# Altium schematic symbol library 02.MCU_KL25.SCHLIB: 9 symbols
Pins are listed as number, name and electrical type; pins without a type are passive.

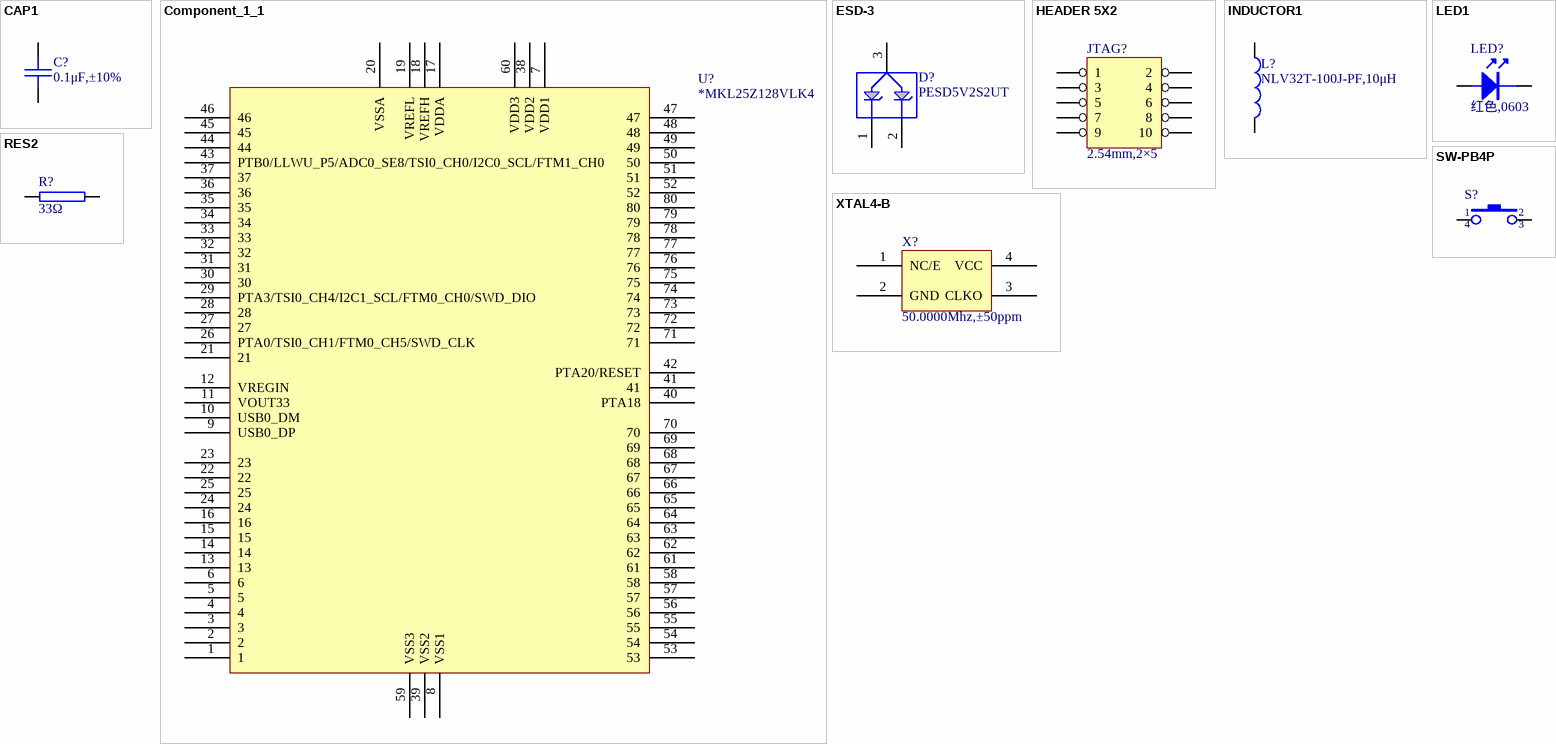
[diagram p0: symbols CAP1 to XTAL4-B]

## CAP1
designator C?, comment 0.1μF,±10%
0.1μF,±10%,100V,X7R,C2012X7R2A104K*****,0805,TDK,RoHS; 物料代码: 1.02.02.0079; 名称: 电容; 封装: 0805; 贴片和直插: SMT; 厂商: TDK; RoHS: RoHS; 型号: 0.1μF,±10%,100V,X7R,C2012X7R2A104K*****; 器件优选方案: *; ComponentLink1Description: ErpDataInfo; ComponentLink1URL: http://erp.zlgmcu.com/ErpExt/ErpData/ListMateriel.aspx?pkey=1.02.02.0079; Value: 0.1μF,±10%
footprint 0805C
pins: 1, 2
2 alternate drawings of the same symbol

## Component_1_1
designator U?, comment *MKL25Z128VLK4
pins: 1, 2, 3, 4, 5, 6, 7 VDD1, 8 VSS1, 9 USB0_DP, 10 USB0_DM, 11 VOUT33, 12 VREGIN, 13, 14, 15, 16, 17 VDDA, 18 VREFH, 19 VREFL, 20 VSSA, 21, 22, 23, 24, 25, 26 PTA0/TSI0_CH1/FTM0_CH5/SWD_CLK, 27, 28, 29 PTA3/TSI0_CH4/I2C1_SCL/FTM0_CH0/SWD_DIO, 30, 31, 32, 33, 34, 35, 36, 37, 38 VDD2, 39 VSS2, 40 PTA18, 41, 42 PTA20/RESET, 43 PTB0/LLWU_P5/ADC0_SE8/TSI0_CH0/I2C0_SCL/FTM1_CH0, 44, 45, 46, 47, 48, 49, 50, 51, 52, 53, 54, 55, 56, 57, 58, 59 VSS3, 60 VDD3, 61, 62, 63, 64, 65, 66, 67, 68, 69, 70, 71, 72, 73, 74, 75, 76, 77, 78, 79, 80

## ESD-3
designator D?  value PESD5V2S2UT  (hidden comment: ESD-3)
PESD5V2S2UT,SOT-23,NXP; 物料代码: 1.05.10.0244; 名称: IC; 设备封装名称: SOT-23_PESD5V2S2UT; 贴片和直插: SMT; 封装: SOT-23; 厂商: NXP; 型号: PESD5V2S2UT; 器件优选方案: *; ComponentLink1Description: ErpDataInfo; ComponentLink1URL: http://erp.zlgmcu.com/ErpExt/ErpData/ListMateriel.aspx?pkey=1.05.10.0244
footprint SOT-23
footprint 0603C
pins: 1, 2, 3
2 alternate drawings of the same symbol

## HEADER 5X2
designator JTAG?  value 2.54mm,2×5  (hidden comment: HEADER 5X2)
2.54mm,2×5,180°,H=8.5+2.5=11.05,W=5.0,DIP=5.5,镀普金,PBT材质; 物料代码: 1.10.03.0150; 名称: PC-104转接口; 贴片和直插: THT; 器件优选方案: 样品物料,谨慎选用; 封装: 镀普金,PBT材质; 型号: 2.54mm,2×5,180°,H=8.5+2.5=11.05,W=5.0,DIP=5.5; ComponentLink1Description: ErpDataInfo; ComponentLink1URL: http://erp.zlgmcu.com/ErpExt/ErpData/ListMateriel.aspx?pkey=1.10.03.0150
footprint IDC-10
pins: 1, 2, 3, 4, 5, 6, 7, 8, 9, 10
2 alternate drawings of the same symbol

## INDUCTOR1
designator L?  value NLV32T-100J-PF,10μH  (hidden comment: INDUCTOR1)
NLV32T-100J-PF,10μH,3.2×2.5×2.2mm,,TDK,RoHS; 物料代码: 1.03.01.0004; 名称: 电感; 设备封装名称: NLV32T-100J-PF_10uH; 贴片和直插: SMT; 器件优选方案: 样品物料,谨慎选用; 厂商: TDK; RoHS: RoHS; 型号: NLV32T-100J-PF,10μH,3.2×2.5×2.2mm; ComponentLink1Description: ErpDataInfo; ComponentLink1URL: http://erp.zlgmcu.com/ErpExt/ErpData/ListMateriel.aspx?pkey=1.03.01.0004
footprint L1210
pins: 1, 2
2 alternate drawings of the same symbol

## LED1
designator LED?  value 红色,0603  (hidden comment: LED1)
红色,0603,0603,*,RoHS; 物料代码: 1.04.05.0008; 名称: 发光二极管; 封装: 0603; 设备封装名称: LED0603-RED; 贴片和直插: SMT; 器件优选方案: 样品物料,谨慎选用; RoHS: RoHS; 型号: 红色,0603; ComponentLink1Description: ErpDataInfo; ComponentLink1URL: http://erp.zlgmcu.com/ErpExt/ErpData/ListMateriel.aspx?pkey=1.04.05.0008
footprint LED-0603
pins: 1, 2
2 alternate drawings of the same symbol

## RES2
designator R?, comment 33Ω
33Ω,0603,*,RoHS; 物料代码: 1.01.01.0016; 名称: 电阻; 封装: 0603; 设备封装名称: R0603_33R; 厂商: Ralec; 贴片和直插: SMT; 器件优选方案: 状态正常; Value: 33Ω; RoHS: RoHS; 型号: 33Ω; ComponentLink1Description: ErpDataInfo; ComponentLink1URL: http://erp.zlgmcu.com/ErpExt/ErpData/ListMateriel.aspx?pkey=1.01.01.0016
footprint 0603R
pins: 1, 2
2 alternate drawings of the same symbol

## SW-PB4P
designator S?  (value not drawn)
6×6×5.0mm,黑色,SMD,,*; 物料代码: 1.09.01.0003; 名称: 轻触按键; 贴片和直插: SMT; 型号: 6×6×5.0mm,黑色,SMD; ComponentLink1Description: ErpDataInfo; ComponentLink1URL: http://erp.zlgmcu.com/ErpExt/ErpData/ListMateriel.aspx?pkey=1.09.01.0003
footprint KEY-6S
pins: 1, 2, 3, 4
2 alternate drawings of the same symbol

## XTAL4-B
designator X?  value 50.0000Mhz,±50ppm  (hidden comment: XTAL4-B)
50.0000Mhz,±50ppm,3.3V,*,-40~85℃,SMD5032,*,RoHS; 物料代码: 1.07.03.0013; 名称: 晶体振荡器; 设备封装名称: XO53-NAGTC_50.000MHz; 贴片和直插: SMT; 封装: SMD5032; RoHS: RoHS; 型号: 50.0000Mhz,±50ppm,3.3V,*,-40~85℃; 器件优选方案: *; ComponentLink1Description: ErpDataInfo; ComponentLink1URL: http://erp.zlgmcu.com/ErpExt/ErpData/ListMateriel.aspx?pkey=1.07.03.0013
footprint XTAL4-5X3A
pins: 1 NC/E, 2 GND, 3 CLKO, 4 VCC